# EAGLE library part ADG419 (library analog-devices_custom)
LC²MOS Precision Mini-DIP Analog switch Source: http://www.analog.com/UploadedFiles/Data_Sheets/ADG419.pdf
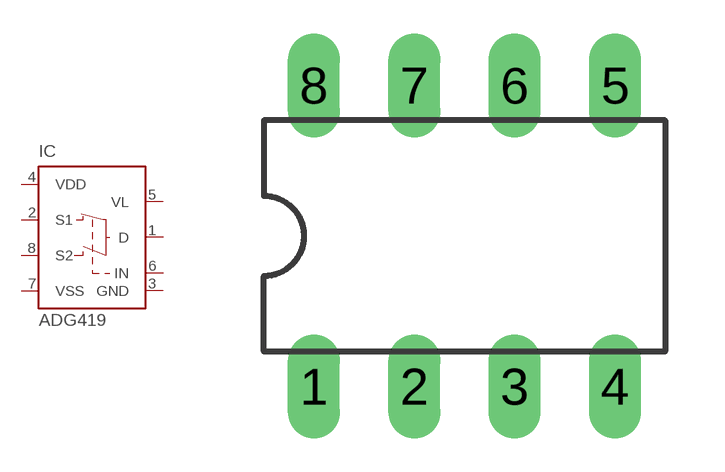
[diagram p3: symbol with the pads of DIL08; footprint DIL08]

Designator prefix IC

## ADG419 (MF: ALTERA CORPORATION; MPN: ADG419BN; OC_FARNELL: 1438705; OC_NEWARK: 16F6524)  [DIL08]
1  D
2  S1
3  GND  pwr
4  VDD  pwr
5  VL  pwr
6  IN  in
7  VSS  pwr
8  S2

## Footprint DIL08 (pad centres in mm)
Dual In Line Package
drill 0.813 long: 1 -3.81,-3.81; 2 -1.27,-3.81; 3 1.27,-3.81; 4 3.81,-3.81; 5 3.81,3.81; 6 1.27,3.81; 7 -1.27,3.81; 8 -3.81,3.81